# EAGLE library part AMPHENOL_MICROB-USB (library integrated_adc)
Micro USB Receptacle DigiKey Page <https://www.digikey.ca/product-detail/en/amphenol-icc-fci/10118194-0001LF/609-4618-1-ND/2785382>
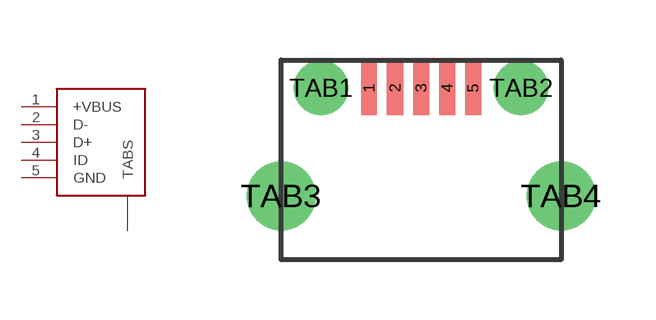
[diagram p5: symbol with the pads of AMPHENOL_MICROB_SMD; footprint AMPHENOL_MICROB_SMD]

Designator prefix -

## AMPHENOL_MICROB-USB  [AMPHENOL_MICROB_SMD]
1  +VBUS
2  D-
3  D+
4  ID
5  GND
TAB1  TABS
TAB2  TABS
TAB3  TABS
TAB4  TABS

## Footprint AMPHENOL_MICROB_SMD (pad centres in mm)
Micro B SMD footprint For amphenol Micro B SMD/through hole footprint. DigiKey Page <https://www.digikey.ca/product-detail/en/amphenol-icc-fci/10118194-0001LF/609-4618-1-ND/2785382>
smd 0.4 x 1.35: 1 -1.3,2.7; 2 -0.65,2.7; 3 0,2.7; 4 0.65,2.7; 5 1.3,2.7
drill 0.85 pad 1.25: TAB1 -2.5,2.7; TAB2 2.5,2.7
drill 1.15 pad 1.55: TAB3 -3.5,0; TAB4 3.5,0